# Altium footprint library TE_640445-3.PcbLib: 1 footprints
Each footprint in its own frame and in the unit in brackets; x right, y up, seen from the top. Pads: shape width x height; smd on the part's side, far side on the other; paste and mask are expansions set on the pad; w line width, h text height; cw(c..) or ccw(c..) is an arc to the next point about the centre after c.
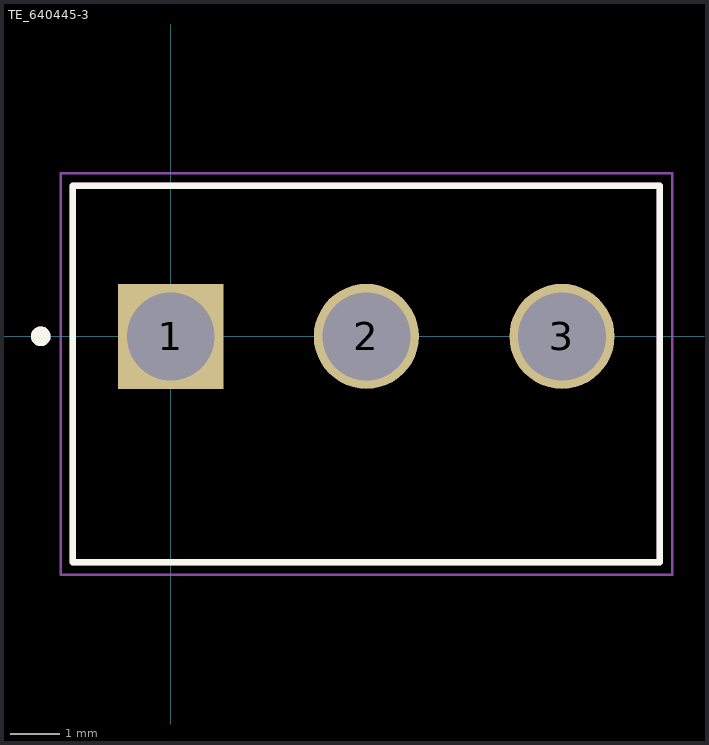
[diagram p0: the footprint, top view; thin cyan lines are the x and y axes]

## TE_640445-3 [mil]
pads (3):
  rect 83.78x83.78 / inner round 83.78 / far side rect 83.78x83.78 hole 70 mask+4.02: 1(0,0)
  round 83.78 hole 70 mask+4.02: 2(155.91,0) 3(311.81,0)
Top Overlay:
  circle w7.87: c-103.58,0 r3.94
  lines w5: -77.99,-180 389.8,-180 389.8,120 -77.99,120 -77.99,-180
Assembly Top:
  circle w7.87: c-103.58,0 r3.94
  lines w5: -77.99,-180 -77.99,120 ; -77.99,-180 389.8,-180 ; -77.99,-180 -77.99,120 ; -77.99,120 389.8,120 ; -77.99,120 389.8,120 ; 389.8,-180 389.8,120 ; 389.8,-180 389.8,120
Courtyard Top:
  lines w1.97: -87.83,-189.84 399.65,-189.84 399.65,129.84 -87.83,129.84 -87.83,-189.84
3D body "step_temp.STEP": height 180.5, standoff -119.5, extent -234,-400 234,250